# Altium schematic symbol library 继电器.SchLib: 31 symbols
Pins are listed as number, name and electrical type; pins without a type are passive.

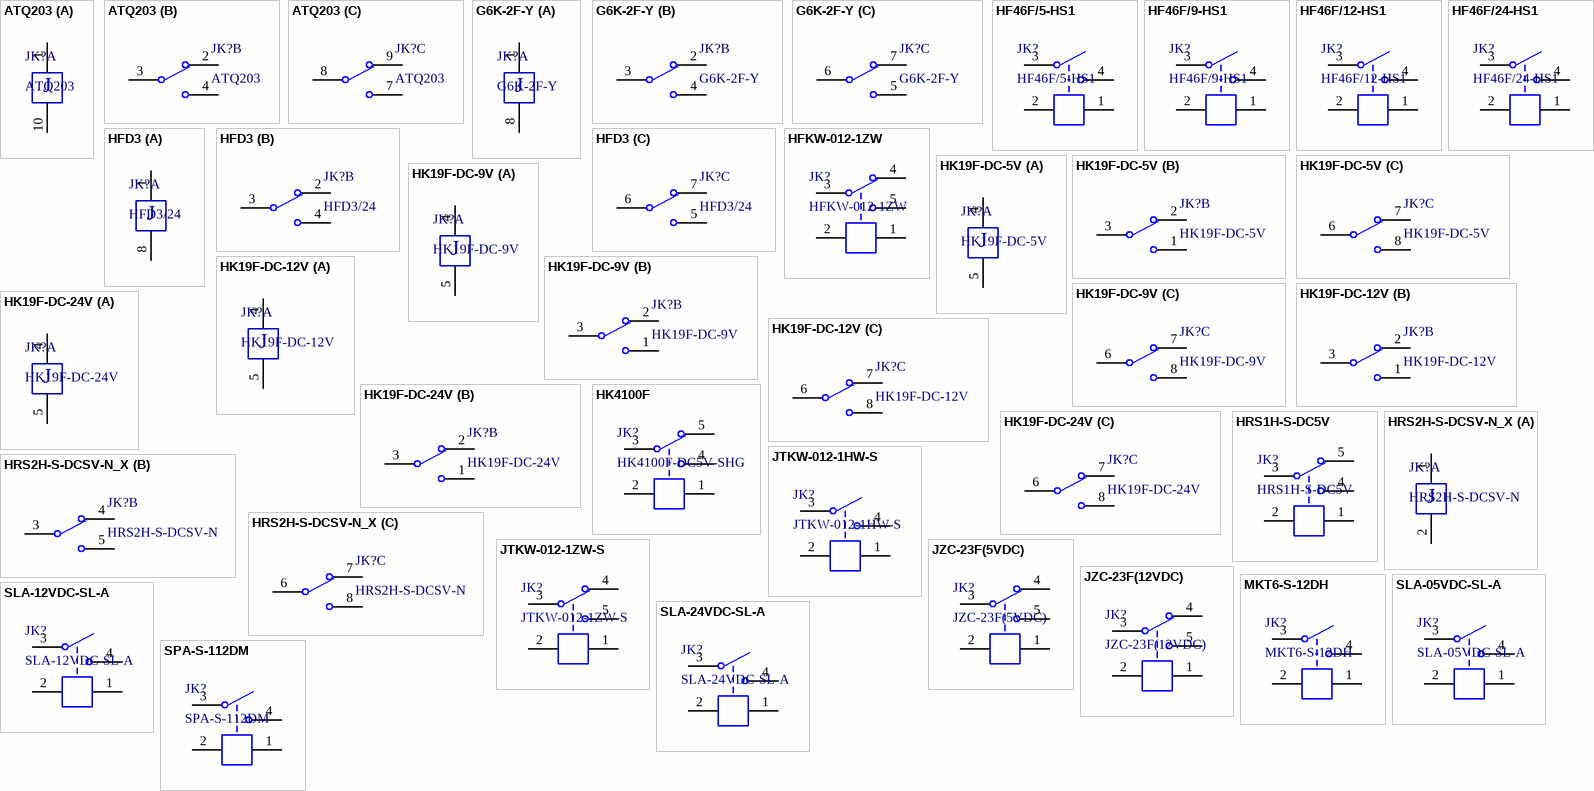
[diagram p0: symbols ATQ203 to SPA-S-112DM]

## ATQ203
designator JK?
12V两组转换; BOM名称: 12V两组继电器; 版权归属: 源创客; 学习资源: www.ooocke.com
footprint ATQ203 (双刀双投)
part A pins: 1, 10
part B pins: 2, 3, 4
part C pins: 7, 8, 9
part A text: J

## G6K-2F-Y
designator JK?
两组转换-信号型; BOM名称: 两组信号继电器; 版权归属: 源创客; 学习资源: www.ooocke.com
footprint G6K-2F-Y (Footprint not found)
part A pins: 1, 8
part B pins: 2, 3, 4
part C pins: 5, 6, 7
part A text: J

## HF46F/5-HS1
designator JK?
5V一组常开; BOM名称: 5V继电器; 版权归属: 源创客; 学习资源: www.ooocke.com
footprint HF46-xx-HS1 (一组常开，长：20.5mm，宽：7mm，高：15.3mm)
pins: 1, 2, 3, 4

## HF46F/9-HS1
designator JK?
9V一组常开; BOM名称: 9V继电器; 版权归属: 源创客; 学习资源: www.ooocke.com
footprint HF46-xx-HS1 (一组常开，长：20.5mm，宽：7mm，高：15.3mm)
pins: 1, 2, 3, 4

## HF46F/12-HS1
designator JK?
12V一组常开; BOM名称: 12V继电器; 版权归属: 源创客; 学习资源: www.ooocke.com
footprint HF46-xx-HS1 (一组常开，长：20.5mm，宽：7mm，高：15.3mm)
pins: 1, 2, 3, 4

## HF46F/24-HS1
designator JK?
24V一组常开; BOM名称: 24V继电器; 版权归属: 源创客; 学习资源: www.ooocke.com
footprint HF46-xx-HS1 (一组常开，长：20.5mm，宽：7mm，高：15.3mm)
pins: 1, 2, 3, 4

## HFD3
designator JK?, comment HFD3/24
超小型两组转换; BOM名称: 两组转换继电器; 版权归属: 源创客; 学习资源: www.ooocke.com
footprint HFD3-DIP (超小型型号继电器（15mm*7.5mm*9mm))
footprint HFD3-SMD (超小型型号继电器（15mm*7.5mm*9mm))
part A pins: 1, 8
part B pins: 2, 3, 4
part C pins: 5, 6, 7
part A text: J

## HFKW-012-1ZW
designator JK?
12V一组转换; BOM名称: 12V继电器; 版权归属: 源创客; 学习资源: www.ooocke.com
footprint 012-1ZW_W (单刀双投)
pins: 1, 2, 3, 4, 5

## HK19F-DC-5V
designator JK?
5V两组转换; BOM名称: 5V两组继电器; 版权归属: 源创客; 学习资源: www.ooocke.com
footprint HK19F-DC (单刀双投，长：20.2mm，宽：10mm，高：12mm)
part A pins: 4, 5
part B pins: 1, 2, 3
part C pins: 6, 7, 8
part A text: J

## HK19F-DC-9V
designator JK?
9V两组转换
footprint HK19F-DC (单刀双投，长：20.2mm，宽：10mm，高：12mm)
part A pins: 4, 5
part B pins: 1, 2, 3
part C pins: 6, 7, 8
part A text: J

## HK19F-DC-12V
designator JK?
12V两组转换
footprint HK19F-DC (单刀双投，长：20.2mm，宽：10mm，高：12mm)
part A pins: 4, 5
part B pins: 1, 2, 3
part C pins: 6, 7, 8
part A text: J

## HK19F-DC-24V
designator JK?
24V两组转换
footprint HK19F-DC (单刀双投，长：20.2mm，宽：10mm，高：12mm)
part A pins: 4, 5
part B pins: 1, 2, 3
part C pins: 6, 7, 8
part A text: J

## HK4100F
designator JK?, comment HK4100F-DC5V-SHG
一组转换
footprint HK4100F (Footprint not found)
pins: 1, 2, 3, 4, 5

## HRS1H-S-DC5V
designator JK?
5V一组转换
footprint HRS1H (单刀双投)
pins: 1, 2, 3, 4, 5

## HRS2H-S-DCSV-N_X
designator JK?, comment HRS2H-S-DCSV-N
5V两组转换
footprint HRS2H (双刀双投)
part A pins: 1, 2
part B pins: 3, 4, 5
part C pins: 6, 7, 8
part A text: J

## JTKW-012-1HW-S
designator JK?
12V一组常开
footprint 012-1HW_BK (单刀单投/常开)
pins: 1, 2, 3, 4

## JTKW-012-1ZW-S
designator JK?
12V一组转换
footprint 012-1ZW_BK (单刀双投)
pins: 1, 2, 3, 4, 5

## JZC-23F(5VDC)
designator JK?
5V单路双控
footprint JZC-23F(4123) (双控继电器)
pins: 1, 2, 3, 4, 5

## JZC-23F(12VDC)
designator JK?
12V单路双控
footprint JZC-23F(4123) (双控继电器)
pins: 1, 2, 3, 4, 5

## MKT6-S-12DH
designator JK?
12V一组常开
footprint MKT6-S-12DH (单刀单投/常开)
pins: 1, 2, 3, 4

## SLA-05VDC-SL-A
designator JK?
5V一组常开
footprint SLA-xxVDC-SL-A (一组常开，长：32mm，宽：27.6mm，高：20mm)
pins: 1, 2, 3, 4

## SLA-12VDC-SL-A
designator JK?
12V一组常开
footprint SLA-xxVDC-SL-A (一组常开，长：32mm，宽：27.6mm，高：20mm)
pins: 1, 2, 3, 4

## SLA-24VDC-SL-A
designator JK?
24V一组常开
footprint SLA-xxVDC-SL-A (一组常开，长：32mm，宽：27.6mm，高：20mm)
pins: 1, 2, 3, 4

## SPA-S-112DM
designator JK?
12V一组常开
footprint SPA-S-112DM (单刀单投/常开)
pins: 1, 2, 3, 4

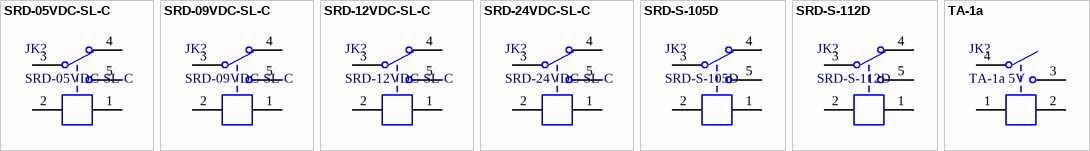
[diagram p1: symbols SRD-05VDC-SL-C to TA-1a]

## SRD-05VDC-SL-C
designator JK?
5V一组转换
footprint SRD-C_B (单刀双投)
pins: 1, 2, 3, 4, 5

## SRD-09VDC-SL-C
designator JK?
9V一组转换
footprint SRD-C_B (单刀双投)
pins: 1, 2, 3, 4, 5

## SRD-12VDC-SL-C
designator JK?
12V一组转换
footprint SRD-C_B (单刀双投)
pins: 1, 2, 3, 4, 5

## SRD-24VDC-SL-C
designator JK?
24V一组转换
footprint SRD-C_B (单刀双投)
pins: 1, 2, 3, 4, 5

## SRD-S-105D
designator JK?
5V一组转换
footprint SRD-C_BK (单刀双投)
pins: 1, 2, 3, 4, 5

## SRD-S-112D
designator JK?
12V一组转换
footprint SRD-C_BK (单刀双投)
pins: 1, 2, 3, 4, 5

## TA-1a
designator JK?, comment TA-1a 5V
一组常开
footprint TA-1a (微功耗超薄继电器21mm*5mm*12.5mm(长*宽*高))
pins: 1, 2, 3, 4